# EAGLE library part 14A-30VA (library trafo-signal)
TRANSFORMER
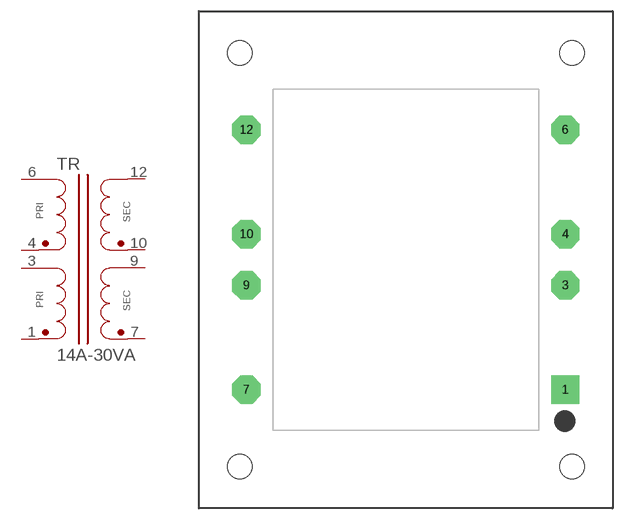
[diagram p9: symbol with the pads of 14A-30VA; footprint 14A-30VA]

Designator prefix TR

## 14A-30VA  [14A-30VA]
1  1  pas
3  3  pas
4  4  pas
6  6  pas
7  7  pas
9  9  pas
10  10  pas
12  12  pas

## Footprint 14A-30VA (pad centres in mm)
14A Series - 30VA
drill 1.676 pad 3.81 square: 1 21.336,-17.399
drill 1.676 pad 3.81 octagon: 3 21.336,-3.429; 4 21.336,3.429; 6 21.336,17.399; 7 -21.336,-17.399; 9 -21.336,-3.429; 10 -21.336,3.429; 12 -21.336,17.399
hole 3.264 at -22.225,27.686
hole 3.264 at -22.225,-27.686
hole 3.264 at 22.225,-27.686
hole 3.264 at 22.225,27.686